# Altium schematic symbol library 2020-11-26_01-51-47.SchLib: 2 symbols
Pins are listed as number, name and electrical type; pins without a type are passive.

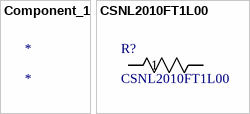
[diagram p0: symbols Component_1 to CSNL2010FT1L00]

## Component_1
designator *

## CSNL2010FT1L00
designator R?
No Description Available; Vendor: Stackpole International; Built_By: EMA_UL_Team; SourceLibrary: Stackpole_2014-12-31; Manufacturer_Part_Number: CSNL2010FT1L00; Copyright: Copyright (C) 2018 Accelerated Designs. All rights reserved; RefDes: RefDes; Type: DEV
footprint STA_CSNL2010(<=3)_STP
pins: 1, 2